# Altium schematic symbol library SCH - MCU - NUVOTON - NUVOTON M058SZAN.SchLib: 1 symbol
Pins are listed as number, name and electrical type; pins without a type are passive.

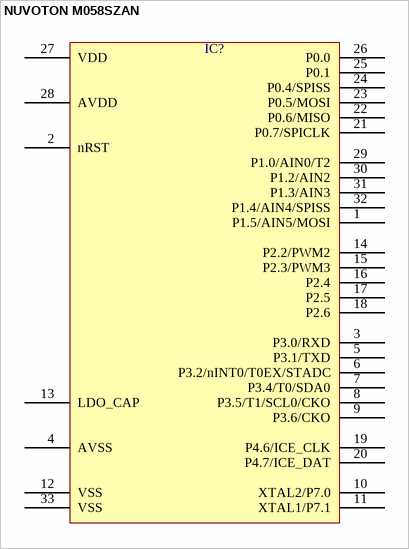
[diagram p0: symbol NUVOTON M058SZAN]

## NUVOTON M058SZAN
designator IC?  (value not drawn)
pins: 1 P1.5/AIN5/MOSI, 2 nRST, 3 P3.0/RXD, 4 AVSS, 5 P3.1/TXD, 6 P3.2/nINT0/T0EX/STADC, 7 P3.4/T0/SDA0, 8 P3.5/T1/SCL0/CKO, 9 P3.6/CKO, 10 XTAL2/P7.0, 11 XTAL1/P7.1, 12 VSS, 13 LDO_CAP, 14 P2.2/PWM2, 15 P2.3/PWM3, 16 P2.4, 17 P2.5, 18 P2.6, 19 P4.6/ICE_CLK, 20 P4.7/ICE_DAT, 21 P0.7/SPICLK, 22 P0.6/MISO, 23 P0.5/MOSI, 24 P0.4/SPISS, 25 P0.1, 26 P0.0, 27 VDD, 28 AVDD, 29 P1.0/AIN0/T2, 30 P1.2/AIN2, 31 P1.3/AIN3, 32 P1.4/AIN4/SPISS, 33 VSS